# Altium schematic symbol library HEADER_2x4_ALT.SchLib: 1 symbol
Pins are listed as number, name and electrical type; pins without a type are passive.

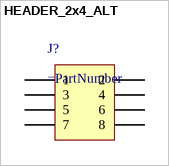
[diagram p0: symbol HEADER_2x4_ALT]

## HEADER_2x4_ALT
designator J?
pins: 1, 2, 3, 4, 5, 6, 7, 8